# Altium footprint library bq24103.PcbLib: 1 footprints
Each footprint in its own frame and in the unit in brackets; x right, y up, seen from the top. Pads: shape width x height; smd on the part's side, far side on the other; paste and mask are expansions set on the pad; w line width, h text height; cw(c..) or ccw(c..) is an arc to the next point about the centre after c.
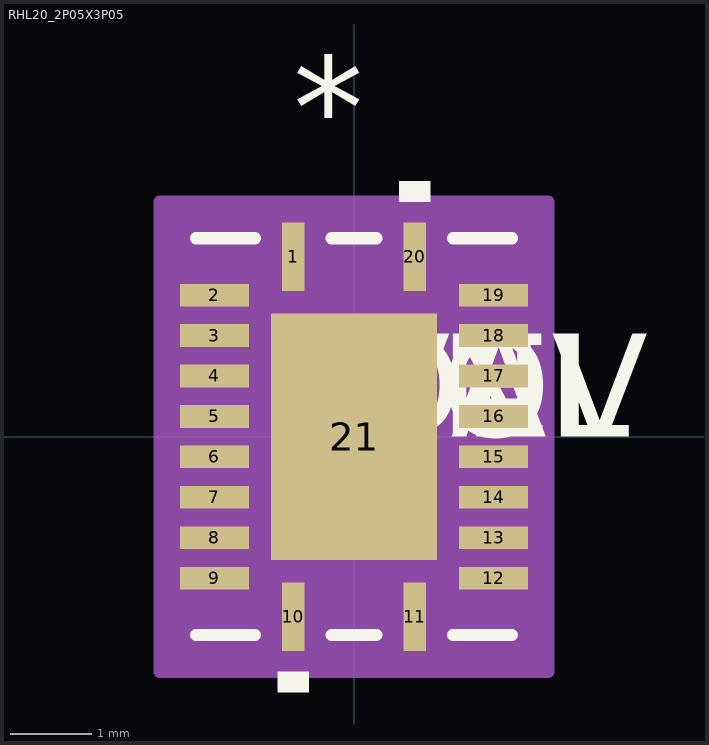
[diagram p0: the footprint, top view; thin cyan lines are the x and y axes]

## RHL20_2P05X3P05 [mm]
pads (21):
  rect 0.28x0.85 smd paste-0.14: 1(-0.75,2.225) 10(-0.75,-2.225) 11(0.75,-2.225) 20(0.75,2.225)
  rect 0.85x0.28 smd paste-0.14: 2(-1.725,1.75) 3(-1.725,1.25) 4(-1.725,0.75) 5(-1.725,0.25) 6(-1.725,-0.25) 7(-1.725,-0.75) 8(-1.725,-1.25) 9(-1.725,-1.75) 12(1.725,-1.75) 13(1.725,-1.25) 14(1.725,-0.75) 15(1.725,-0.25) 16(1.725,0.25) 17(1.725,0.75) 18(1.725,1.25) 19(1.725,1.75)
  rect 2.05x3.05 smd paste-1.512 mask-1.511: 21(0,0)
Top Overlay:
  region: -0.56,-2.904 -0.941,-2.904 -0.941,-3.158 -0.56,-3.158
  region: 0.941,2.904 0.56,2.904 0.56,3.158 0.941,3.158
  lines w0.152: -1.952,-2.452 -1.223,-2.452 ; -1.952,2.452 -1.223,2.452 ; -0.277,-2.452 0.277,-2.452 ; -0.277,2.452 0.277,2.452 ; 1.223,-2.452 1.952,-2.452 ; 1.223,2.452 1.952,2.452
  text "*" at -0.75,3.437 h1.27
  text "PN" at 0,0 h1.27
  text "DEV" at 0,0 h1.27
  text "VAL" at 0,0 h1.27
  text "TOL" at 0,0 h1.27
Top Paste:
  drawing of 36 lines, arcs and shapes, not listed
Top Solder:
  region: -1.23,1.96 -2.22,1.96 -2.22,1.54 -1.23,1.54
  region: -1.23,1.46 -2.22,1.46 -2.22,1.04 -1.23,1.04
  region: -1.23,0.96 -2.22,0.96 -2.22,0.54 -1.23,0.54
  region: -1.23,0.46 -2.22,0.46 -2.22,0.04 -1.23,0.04
  region: -1.23,-0.04 -2.22,-0.04 -2.22,-0.46 -1.23,-0.46
  region: -1.23,-0.54 -2.22,-0.54 -2.22,-0.96 -1.23,-0.96
  region: -1.23,-1.04 -2.22,-1.04 -2.22,-1.46 -1.23,-1.46
  region: -1.23,-1.54 -2.22,-1.54 -2.22,-1.96 -1.23,-1.96
  region: -0.54,-1.73 -0.96,-1.73 -0.96,-2.72 -0.54,-2.72
  region: 0.96,-1.73 0.54,-1.73 0.54,-2.72 0.96,-2.72
  region: 2.22,-1.54 1.23,-1.54 1.23,-1.96 2.22,-1.96
  region: 2.22,-1.04 1.23,-1.04 1.23,-1.46 2.22,-1.46
  region: 2.22,-0.54 1.23,-0.54 1.23,-0.96 2.22,-0.96
  region: 2.22,-0.04 1.23,-0.04 1.23,-0.46 2.22,-0.46
  region: 2.22,0.46 1.23,0.46 1.23,0.04 2.22,0.04
  region: 2.22,0.96 1.23,0.96 1.23,0.54 2.22,0.54
  region: 2.22,1.46 1.23,1.46 1.23,1.04 2.22,1.04
  region: 2.22,1.96 1.23,1.96 1.23,1.54 2.22,1.54
  region: 0.96,2.72 0.54,2.72 0.54,1.73 0.96,1.73
  region: -0.54,2.72 -0.96,2.72 -0.96,1.73 -0.54,1.73
  region: -0.375,1.525 0.375,1.525 0.375,2.65 0.16,2.65 0.16,1.925 -0.16,1.925 -0.16,2.65 -0.375,2.65
  region: -0.375,1.525 0.375,1.525 0.375,2.65 0.16,2.65 0.16,1.925 -0.16,1.925 -0.16,2.65 -0.375,2.65
  region: -0.375,-1.525 0.375,-1.525 0.375,-2.65 0.16,-2.65 0.16,-1.925 -0.16,-1.925 -0.16,-2.65 -0.375,-2.65
  region: -0.375,-1.525 0.375,-1.525 0.375,-2.65 0.16,-2.65 0.16,-1.925 -0.16,-1.925 -0.16,-2.65 -0.375,-2.65
  region: -1.088,0.987 -1.088,1.588 1.088,1.588 1.088,0.987
  region: -1.088,0.2 -1.088,0.587 1.088,0.587 1.088,0.2
  region: -1.088,-0.587 -1.088,-0.2 1.088,-0.2 1.088,-0.587
  region: -1.088,-1.588 -1.088,-0.987 1.088,-0.987 1.088,-1.588
  region: -1.088,-1.588 -1.088,1.588 -0.594,1.588 -0.594,-1.588
  region: 0.194,-1.588 0.194,1.588 -0.194,1.588 -0.194,-1.588
  region: 0.594,-1.588 0.594,1.588 1.088,1.588 1.088,-1.588
Mechanical 13:
  text "*" at -0.75,1.8 h1.27
  text "RefDes2" at 0,0 h1.27
Mechanical 15:
  region: 2.404,-2.904 -2.404,-2.904 -2.404,2.904 2.404,2.904
  lines w0.152: -2.404,-2.904 -2.404,2.904 2.404,2.904 2.404,-2.904 -2.404,-2.904
Mechanical 16:
  circle w0.127: c-0.394,-0.787 r0.191
  circle w0.127: c-0.394,0 r0.191
  circle w0.127: c-0.394,0.787 r0.191
  circle w0.127: c0.394,-0.787 r0.191
  circle w0.127: c0.394,0 r0.191
  circle w0.127: c0.394,0.787 r0.191
Multi-Layer:
  text "Copyright (C) 2015 Accelerated Designs. All rights reserved" at 0,0 h0.03
3D body "RHL20_2P05X3P05.stp": height 1, standoff -0.05, extent -1.876,-2.376 1.876,2.376